# EAGLE library part INA226 (library LTM4607)
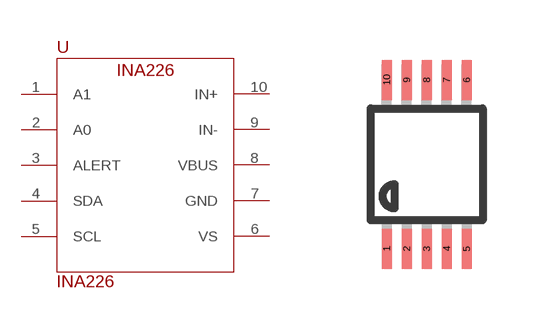
[diagram p3: symbol with the pads of MSOP10; footprint MSOP10]

Designator prefix U

## INA226  [MSOP10]
1  A1
2  A0
3  ALERT
4  SDA
5  SCL
6  VS
7  GND
8  VBUS
9  IN-
10  IN+

## Footprint MSOP10 (pad centres in mm)
10-Lead Mini Small Outline Package [MSOP] (RM-10) Source: http://www.analog.com/UploadedFiles/Data_Sheets/35641221898805SSM2167_b.pdf COMPLIANT TO JEDEC STANDARDS MO-187BA
smd 0.25 x 1: 1 -1,-2.113; 2 -0.5,-2.113; 3 0,-2.113; 4 0.5,-2.113; 5 1,-2.113; 6 1,2.113; 7 0.5,2.113; 8 0,2.113; 9 -0.5,2.113; 10 -1,2.113